# EAGLE library part MSP430F2410 (library PocketCube)
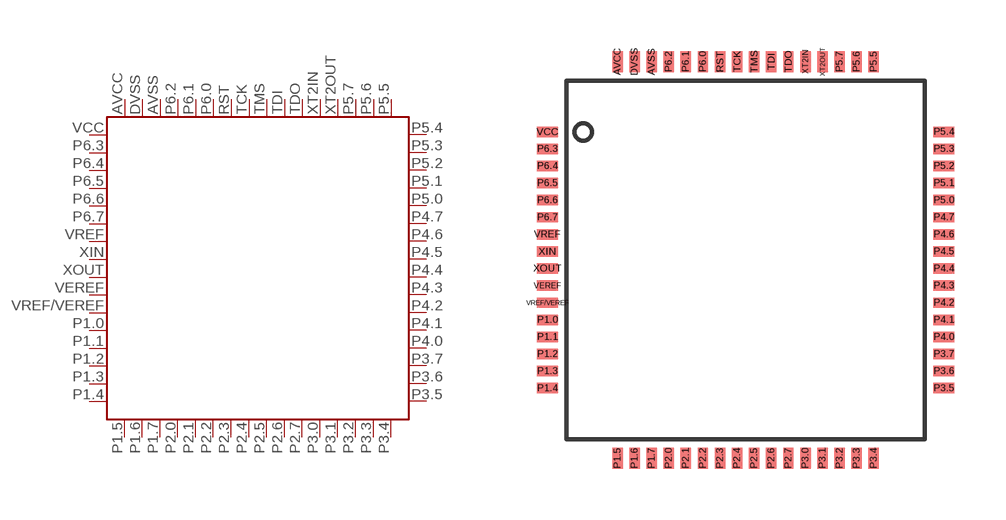
[diagram p17: symbol with the pads of MSP430F2410; footprint MSP430F2410]

Designator prefix -

## MSP430F2410  [MSP430F2410]
AVCC  AVCC
AVSS  AVSS
DVSS  DVSS
P1.0  P1.0
P1.1  P1.1
P1.2  P1.2
P1.3  P1.3
P1.4  P1.4
P1.5  P1.5
P1.6  P1.6
P1.7  P1.7
P2.0  P2.0
P2.1  P2.1
P2.2  P2.2
P2.3  P2.3
P2.4  P2.4
P2.5  P2.5
P2.6  P2.6
P2.7  P2.7
P3.0  P3.0
P3.1  P3.1
P3.2  P3.2
P3.3  P3.3
P3.4  P3.4
P3.5  P3.5
P3.6  P3.6
P3.7  P3.7
P4.0  P4.0
P4.1  P4.1
P4.2  P4.2
P4.3  P4.3
P4.4  P4.4
P4.5  P4.5
P4.6  P4.6
P4.7  P4.7
P5.0  P5.0
P5.1  P5.1
P5.2  P5.2
P5.3  P5.3
P5.4  P5.4
P5.5  P5.5
P5.6  P5.6
P5.7  P5.7
P6.0  P6.0
P6.1  P6.1
P6.2  P6.2
P6.3  P6.3
P6.4  P6.4
P6.5  P6.5
P6.6  P6.6
P6.7  P6.7
RST  RST
TCK  TCK
TDI  TDI
TDO  TDO
TMS  TMS
VCC  DVCC
VEREF  VEREF
VREF  VREF
VREF/VEREF  VREF/VEREF
XIN  XIN
XOUT  XOUT
XT2IN  XT2IN
XT2OUT  XT2OUT

## Footprint MSP430F2410 (pad centres in mm)
smd 0.305 x 0.61: AVCC 0,11.85; AVSS 1,11.85; DVSS 0.5,11.85; P1.5 0,0.25; P1.6 0.5,0.25; P1.7 1,0.25; P2.0 1.5,0.25; P2.1 2,0.25; P2.2 2.5,0.25; P2.3 3,0.25; P2.4 3.5,0.25; P2.5 4,0.25; P2.6 4.5,0.25; P2.7 5,0.25; P3.0 5.5,0.25; P3.1 6,0.25; P3.2 6.5,0.25; P3.3 7,0.25; P3.4 7.5,0.25; P5.5 7.5,11.85; P5.6 7,11.85; P5.7 6.5,11.85; P6.0 2.5,11.85; P6.1 2,11.85; P6.2 1.5,11.85; RST 3,11.85; TCK 3.5,11.85; TDI 4.5,11.85; TDO 5,11.85; TMS 4,11.85; XT2IN 5.5,11.85; XT2OUT 6,11.85
smd 0.61 x 0.305: P1.0 -2.05,4.3; P1.1 -2.05,3.8; P1.2 -2.05,3.3; P1.3 -2.05,2.8; P1.4 -2.05,2.3; P3.5 9.55,2.3; P3.6 9.55,2.8; P3.7 9.55,3.3; P4.0 9.55,3.8; P4.1 9.55,4.3; P4.2 9.55,4.8; P4.3 9.55,5.3; P4.4 9.55,5.8; P4.5 9.55,6.3; P4.6 9.55,6.8; P4.7 9.55,7.3; P5.0 9.55,7.8; P5.1 9.55,8.3; P5.2 9.55,8.8; P5.3 9.55,9.3; P5.4 9.55,9.8; P6.3 -2.05,9.3; P6.4 -2.05,8.8; P6.5 -2.05,8.3; P6.6 -2.05,7.8; P6.7 -2.05,7.3; VCC -2.05,9.8; VEREF -2.05,5.3; VREF -2.05,6.8; VREF/VEREF -2.05,4.8; XIN -2.05,6.3; XOUT -2.05,5.8